# Altium integrated library Oscillators - Crystals.IntLib: 746 symbols (part 1 of 17)
Pins are listed as number, name and electrical type; pins without a type are passive.

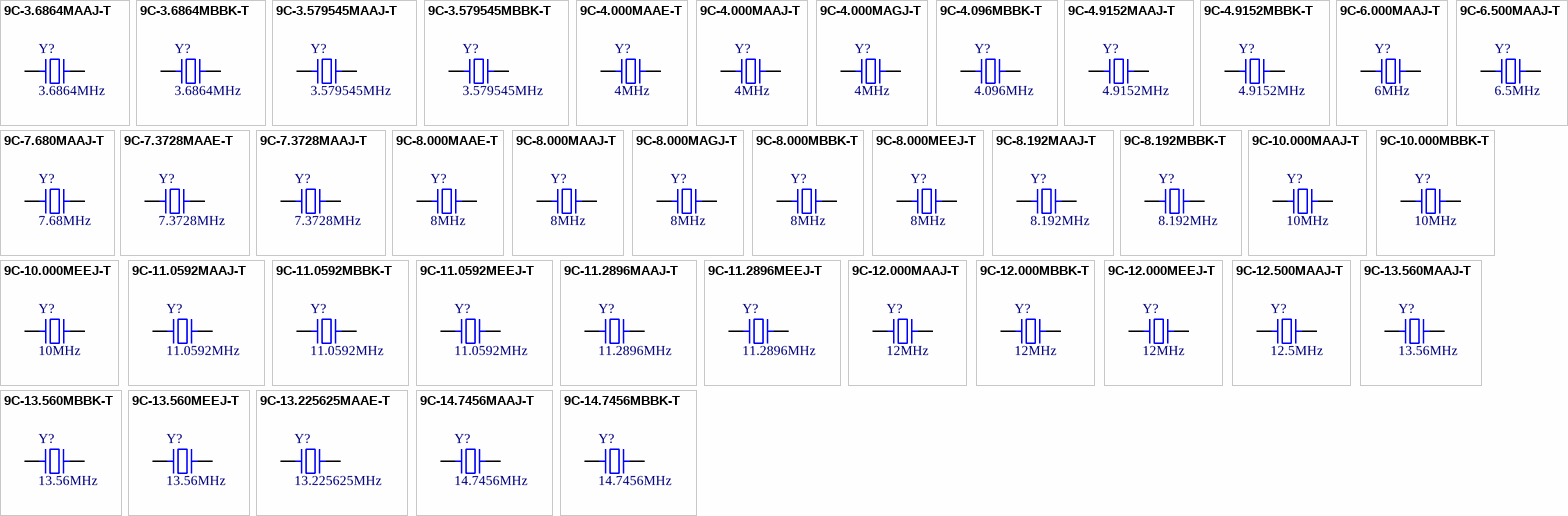
[diagram p0: symbols 9C-3.6864MAAJ-T to 9C-14.7456MBBK-T]

## 9C-3.6864MAAJ-T
designator Y?, comment 3.6864MHz
CRYSTAL 3.6864MHZ 18PF SMD; Part Number: 9C-3.6864MAAJ-T; Manufacturer: TXC CORPORATION; ESR (Equivalent Series Resistance): 150 Ohms; Frequency Stability: ±30ppm; Operating Mode: Fundamental; ComponentLink1Description: Datasheet; ComponentLink1URL: http://www.txccorp.com/download/products/quartz_crystals/2015TXC_9C_32.pdf; ComponentLink2Description: DigiKey Link; ComponentLink2URL: http://digikey.com/product-detail/en/txc-corporation/9C-3.6864MAAJ-T/887-1041-1-ND/2118918; Frequency: 3.6864MHz; Frequency Tolerance: ±30ppm; Height - Seated (Max): 0.161" (4.10mm); LastUpdated: 9/2/2020 1:22:01 AM; Lifecycle Status: Active; Load Capacitance: 18pF; Minimum Order: 1; Mounting Type: Surface Mount; Operating Temperature: -20°C ~ 70°C; Package / Case: HC-49/US; Packaging: TapeAndReel; PartId: 709; Part Status: Active; Price: 0.22; Series: 9C; Size / Dimension: 0.449" L x 0.189" W (11.40mm x 4.80mm); Supplier 1: DigiKey; Supplier Part Number 1: 887-1041-1-ND; Type: MHz Crystal; Value: 3.6864MHz
footprint TXC 9C
pins: 1, 2

## 9C-3.6864MBBK-T
designator Y?, comment 3.6864MHz
CRYSTAL 3.6864MHZ 20PF SMD; Part Number: 9C-3.6864MBBK-T; Manufacturer: TXC CORPORATION; ESR (Equivalent Series Resistance): 150 Ohms; Frequency Stability: ±50ppm; Operating Mode: Fundamental; ComponentLink1Description: Datasheet; ComponentLink1URL: http://www.txccorp.com/download/products/quartz_crystals/2015TXC_9C_32.pdf; ComponentLink2Description: DigiKey Link; ComponentLink2URL: http://digikey.com/product-detail/en/txc-corporation/9C-3.6864MBBK-T/887-2451-1-ND/4475441; Frequency: 3.6864MHz; Frequency Tolerance: ±50ppm; Height - Seated (Max): 0.161" (4.10mm); LastUpdated: 9/2/2020 1:22:02 AM; Lifecycle Status: Active; Load Capacitance: 20pF; Minimum Order: 1; Mounting Type: Surface Mount; Operating Temperature: -20°C ~ 70°C; Package / Case: HC-49S; Packaging: TapeAndReel; PartId: 682; Part Status: Active; Price: 0.18; Series: 9C; Size / Dimension: 0.449" L x 0.189" W (11.40mm x 4.80mm); Supplier 1: DigiKey; Supplier Part Number 1: 887-2451-1-ND; Type: MHz Crystal; Value: 3.6864MHz
footprint TXC 9C
pins: 1, 2

## 9C-3.579545MAAJ-T
designator Y?, comment 3.579545MHz
CRYSTAL 3.579545MHZ 18PF SMD; Part Number: 9C-3.579545MAAJ-T; Manufacturer: TXC CORPORATION; ESR (Equivalent Series Resistance): 200 Ohms; Frequency Stability: ±30ppm; Operating Mode: Fundamental; ComponentLink1Description: Datasheet; ComponentLink1URL: http://www.txccorp.com/download/products/quartz_crystals/2015TXC_9C_32.pdf; ComponentLink2Description: DigiKey Link; ComponentLink2URL: http://digikey.com/product-detail/en/txc-corporation/9C-3.579545MAAJ-T/887-1040-1-ND/2118917; Frequency: 3.579545MHz; Frequency Tolerance: ±30ppm; Height - Seated (Max): 0.161" (4.10mm); LastUpdated: 9/2/2020 1:22:01 AM; Lifecycle Status: Active; Load Capacitance: 18pF; Minimum Order: 1; Mounting Type: Surface Mount; Operating Temperature: -20°C ~ 70°C; Package / Case: HC-49/US; Packaging: TapeAndReel; PartId: 711; Part Status: Active; Price: 0.22; Series: 9C; Size / Dimension: 0.449" L x 0.189" W (11.40mm x 4.80mm); Supplier 1: DigiKey; Supplier Part Number 1: 887-1040-1-ND; Type: MHz Crystal; Value: 3.579545MHz
footprint TXC 9C
pins: 1, 2

## 9C-3.579545MBBK-T
designator Y?, comment 3.579545MHz
CRYSTAL 3.579545MHZ 20PF SMD; Part Number: 9C-3.579545MBBK-T; Manufacturer: TXC CORPORATION; ESR (Equivalent Series Resistance): 200 Ohms; Frequency Stability: ±50ppm; Operating Mode: Fundamental; ComponentLink1Description: Datasheet; ComponentLink1URL: http://www.txccorp.com/download/products/quartz_crystals/2015TXC_9C_32.pdf; ComponentLink2Description: DigiKey Link; ComponentLink2URL: http://digikey.com/product-detail/en/txc-corporation/9C-3.579545MBBK-T/887-2450-1-ND/4475440; Frequency: 3.579545MHz; Frequency Tolerance: ±50ppm; Height - Seated (Max): 0.161" (4.10mm); LastUpdated: 9/2/2020 1:22:02 AM; Lifecycle Status: Active; Load Capacitance: 20pF; Minimum Order: 1; Mounting Type: Surface Mount; Operating Temperature: -20°C ~ 70°C; Package / Case: HC-49S; Packaging: TapeAndReel; PartId: 665; Part Status: Active; Price: 0.18; Series: 9C; Size / Dimension: 0.449" L x 0.189" W (11.40mm x 4.80mm); Supplier 1: DigiKey; Supplier Part Number 1: 887-2450-1-ND; Type: MHz Crystal; Value: 3.579545MHz
footprint TXC 9C
pins: 1, 2

## 9C-4.000MAAE-T
designator Y?, comment 4MHz
CRYSTAL 4.0000MHZ 12PF SMD; Part Number: 9C-4.000MAAE-T; Manufacturer: TXC CORPORATION; ESR (Equivalent Series Resistance): 150 Ohms; Frequency Stability: ±30ppm; Operating Mode: Fundamental; ComponentLink1Description: Datasheet; ComponentLink1URL: http://www.txccorp.com/download/products/quartz_crystals/2015TXC_9C_32.pdf; ComponentLink2Description: DigiKey Link; ComponentLink2URL: http://digikey.com/product-detail/en/txc-corporation/9C-4.000MAAE-T/887-2462-1-ND/4475447; Frequency: 4MHz; Frequency Tolerance: ±30ppm; Height - Seated (Max): 0.161" (4.10mm); LastUpdated: 9/2/2020 1:22:02 AM; Lifecycle Status: Active; Load Capacitance: 12pF; Minimum Order: 1; Mounting Type: Surface Mount; Operating Temperature: -20°C ~ 70°C; Package / Case: HC-49S; Packaging: TapeAndReel; PartId: 660; Part Status: Active; Price: 0.19; Series: 9C; Size / Dimension: 0.449" L x 0.189" W (11.40mm x 4.80mm); Supplier 1: DigiKey; Supplier Part Number 1: 887-2462-1-ND; Type: MHz Crystal; Value: 4MHz
footprint TXC 9C
pins: 1, 2

## 9C-4.000MAAJ-T
designator Y?, comment 4MHz
CRYSTAL 4.0000MHZ 18PF SMD; Part Number: 9C-4.000MAAJ-T; Manufacturer: TXC CORPORATION; ESR (Equivalent Series Resistance): 150 Ohms; Frequency Stability: ±30ppm; Operating Mode: Fundamental; ComponentLink1Description: Datasheet; ComponentLink1URL: http://www.txccorp.com/download/products/quartz_crystals/2015TXC_9C_32.pdf; ComponentLink2Description: DigiKey Link; ComponentLink2URL: http://digikey.com/product-detail/en/txc-corporation/9C-4.000MAAJ-T/887-1042-1-ND/2118919; Frequency: 4MHz; Frequency Tolerance: ±30ppm; Height - Seated (Max): 0.161" (4.10mm); LastUpdated: 9/2/2020 1:22:01 AM; Lifecycle Status: Active; Load Capacitance: 18pF; Minimum Order: 1; Mounting Type: Surface Mount; Operating Temperature: -20°C ~ 70°C; Package / Case: HC-49/US; Packaging: TapeAndReel; PartId: 706; Part Status: Active; Price: 0.22; Series: 9C; Size / Dimension: 0.449" L x 0.189" W (11.40mm x 4.80mm); Supplier 1: DigiKey; Supplier Part Number 1: 887-1042-1-ND; Type: MHz Crystal; Value: 4MHz
footprint TXC 9C
pins: 1, 2

## 9C-4.000MAGJ-T
designator Y?, comment 4MHz
CRYSTAL 4.0000MHZ 18PF SMD; Part Number: 9C-4.000MAGJ-T; Manufacturer: TXC CORPORATION; ESR (Equivalent Series Resistance): 150 Ohms; Frequency Stability: ±50ppm; Frequency Tolerance: ±30ppm; Operating Mode: Fundamental; ComponentLink1Description: Datasheet; ComponentLink1URL: http://www.txccorp.com/download/products/quartz_crystals/2015TXC_9C_32.pdf; ComponentLink2Description: DigiKey Link; ComponentLink2URL: http://digikey.com/product-detail/en/txc-corporation/9C-4.000MAGJ-T/887-2463-1-ND/4475504; Frequency: 4MHz; Height - Seated (Max): 0.161" (4.10mm); LastUpdated: 9/2/2020 1:22:02 AM; Lifecycle Status: Active; Load Capacitance: 18pF; Minimum Order: 1; Mounting Type: Surface Mount; Operating Temperature: -40°C ~ 85°C; Package / Case: HC-49S; Packaging: TapeAndReel; PartId: 671; Part Status: Active; Price: 0.19; Series: 9C; Size / Dimension: 0.449" L x 0.189" W (11.40mm x 4.80mm); Supplier 1: DigiKey; Supplier Part Number 1: 887-2463-1-ND; Type: MHz Crystal; Value: 4MHz
footprint TXC 9C
pins: 1, 2

## 9C-4.096MBBK-T
designator Y?, comment 4.096MHz
CRYSTAL 4.0960MHZ 20PF SMD; Part Number: 9C-4.096MBBK-T; Manufacturer: TXC CORPORATION; ESR (Equivalent Series Resistance): 150 Ohms; Frequency Stability: ±50ppm; Operating Mode: Fundamental; ComponentLink1Description: Datasheet; ComponentLink1URL: http://www.txccorp.com/download/products/quartz_crystals/2015TXC_9C_32.pdf; ComponentLink2Description: DigiKey Link; ComponentLink2URL: http://digikey.com/product-detail/en/txc-corporation/9C-4.096MBBK-T/887-1828-1-ND/3585944; Frequency: 4.096MHz; Frequency Tolerance: ±50ppm; Height - Seated (Max): 0.161" (4.10mm); LastUpdated: 9/2/2020 1:22:02 AM; Lifecycle Status: Active; Load Capacitance: 20pF; Minimum Order: 1; Mounting Type: Surface Mount; Operating Temperature: -20°C ~ 70°C; Package / Case: HC-49S; Packaging: TapeAndReel; PartId: 667; Part Status: Active; Price: 0.18; Series: 9C; Size / Dimension: 0.449" L x 0.189" W (11.40mm x 4.80mm); Supplier 1: DigiKey; Supplier Part Number 1: 887-1828-1-ND; Type: MHz Crystal; Value: 4.096MHz
footprint TXC 9C
pins: 1, 2

## 9C-4.9152MAAJ-T
designator Y?, comment 4.9152MHz
CRYSTAL 4.9152MHZ 18PF SMD; Part Number: 9C-4.9152MAAJ-T; Manufacturer: TXC CORPORATION; ESR (Equivalent Series Resistance): 150 Ohms; Frequency Stability: ±30ppm; Operating Mode: Fundamental; ComponentLink1Description: Datasheet; ComponentLink1URL: http://www.txccorp.com/download/products/quartz_crystals/2015TXC_9C_32.pdf; ComponentLink2Description: DigiKey Link; ComponentLink2URL: http://digikey.com/product-detail/en/txc-corporation/9C-4.9152MAAJ-T/887-1044-1-ND/2118921; Frequency: 4.9152MHz; Frequency Tolerance: ±30ppm; Height - Seated (Max): 0.161" (4.10mm); LastUpdated: 9/2/2020 1:22:01 AM; Lifecycle Status: Active; Load Capacitance: 18pF; Minimum Order: 1; Mounting Type: Surface Mount; Operating Temperature: -20°C ~ 70°C; Package / Case: HC-49/US; Packaging: TapeAndReel; PartId: 726; Part Status: Active; Price: 0.22; Series: 9C; Size / Dimension: 0.449" L x 0.189" W (11.40mm x 4.80mm); Supplier 1: DigiKey; Supplier Part Number 1: 887-1044-1-ND; Type: MHz Crystal; Value: 4.9152MHz
footprint TXC 9C
pins: 1, 2

## 9C-4.9152MBBK-T
designator Y?, comment 4.9152MHz
CRYSTAL 4.9152MHZ 20PF SMD; Part Number: 9C-4.9152MBBK-T; Manufacturer: TXC CORPORATION; ESR (Equivalent Series Resistance): 150 Ohms; Frequency Stability: ±50ppm; Operating Mode: Fundamental; ComponentLink1Description: Datasheet; ComponentLink1URL: http://www.txccorp.com/download/products/quartz_crystals/2015TXC_9C_32.pdf; ComponentLink2Description: DigiKey Link; ComponentLink2URL: http://digikey.com/product-detail/en/txc-corporation/9C-4.9152MBBK-T/887-1829-1-ND/3585946; Frequency: 4.9152MHz; Frequency Tolerance: ±50ppm; Height - Seated (Max): 0.161" (4.10mm); LastUpdated: 9/2/2020 1:22:02 AM; Lifecycle Status: Active; Load Capacitance: 20pF; Minimum Order: 1; Mounting Type: Surface Mount; Operating Temperature: -20°C ~ 70°C; Package / Case: HC-49S; Packaging: TapeAndReel; PartId: 666; Part Status: Active; Price: 0.18; Series: 9C; Size / Dimension: 0.449" L x 0.189" W (11.40mm x 4.80mm); Supplier 1: DigiKey; Supplier Part Number 1: 887-1829-1-ND; Type: MHz Crystal; Value: 4.9152MHz
footprint TXC 9C
pins: 1, 2

## 9C-6.000MAAJ-T
designator Y?, comment 6MHz
CRYSTAL 6.0000MHZ 18PF SMD; Part Number: 9C-6.000MAAJ-T; Manufacturer: TXC CORPORATION; ESR (Equivalent Series Resistance): 80 Ohms; Frequency Stability: ±30ppm; Operating Mode: Fundamental; ComponentLink1Description: Datasheet; ComponentLink1URL: http://www.txccorp.com/download/products/quartz_crystals/2015TXC_9C_32.pdf; ComponentLink2Description: DigiKey Link; ComponentLink2URL: http://digikey.com/product-detail/en/txc-corporation/9C-6.000MAAJ-T/887-1045-1-ND/2118922; Frequency: 6MHz; Frequency Tolerance: ±30ppm; Height - Seated (Max): 0.161" (4.10mm); LastUpdated: 9/2/2020 1:22:01 AM; Lifecycle Status: Active; Load Capacitance: 18pF; Minimum Order: 1; Mounting Type: Surface Mount; Operating Temperature: -20°C ~ 70°C; Package / Case: HC-49/US; Packaging: TapeAndReel; PartId: 712; Part Status: Active; Price: 0.22; Series: 9C; Size / Dimension: 0.449" L x 0.189" W (11.40mm x 4.80mm); Supplier 1: DigiKey; Supplier Part Number 1: 887-1045-1-ND; Type: MHz Crystal; Value: 6MHz
footprint TXC 9C
pins: 1, 2

## 9C-6.500MAAJ-T
designator Y?, comment 6.5MHz
CRYSTAL 6.5000MHZ 18PF SMD; Part Number: 9C-6.500MAAJ-T; Manufacturer: TXC CORPORATION; ESR (Equivalent Series Resistance): 80 Ohms; Frequency Stability: ±30ppm; Operating Mode: Fundamental; ComponentLink1Description: Datasheet; ComponentLink1URL: http://www.txccorp.com/download/products/quartz_crystals/2015TXC_9C_32.pdf; ComponentLink2Description: DigiKey Link; ComponentLink2URL: http://digikey.com/product-detail/en/txc-corporation/9C-6.500MAAJ-T/887-2470-1-ND/4475508; Frequency: 6.5MHz; Frequency Tolerance: ±30ppm; Height - Seated (Max): 0.161" (4.10mm); LastUpdated: 9/2/2020 1:22:01 AM; Lifecycle Status: Active; Load Capacitance: 18pF; Minimum Order: 1; Mounting Type: Surface Mount; Operating Temperature: -20°C ~ 70°C; Package / Case: HC-49S; Packaging: TapeAndReel; PartId: 689; Part Status: Active; Price: 0.19; Series: 9C; Size / Dimension: 0.449" L x 0.189" W (11.40mm x 4.80mm); Supplier 1: DigiKey; Supplier Part Number 1: 887-2470-1-ND; Type: MHz Crystal; Value: 6.5MHz
footprint TXC 9C
pins: 1, 2

## 9C-7.680MAAJ-T
designator Y?, comment 7.68MHz
CRYSTAL 7.6800MHZ 18PF SMD; Part Number: 9C-7.680MAAJ-T; Manufacturer: TXC CORPORATION; ESR (Equivalent Series Resistance): 80 Ohms; Frequency Stability: ±30ppm; Operating Mode: Fundamental; ComponentLink1Description: Datasheet; ComponentLink1URL: http://www.txccorp.com/download/products/quartz_crystals/2015TXC_9C_32.pdf; ComponentLink2Description: DigiKey Link; ComponentLink2URL: http://digikey.com/product-detail/en/txc-corporation/9C-7.680MAAJ-T/887-1047-1-ND/2118924; Frequency: 7.68MHz; Frequency Tolerance: ±30ppm; Height - Seated (Max): 0.161" (4.10mm); LastUpdated: 9/2/2020 1:22:01 AM; Lifecycle Status: Active; Load Capacitance: 18pF; Minimum Order: 1; Mounting Type: Surface Mount; Operating Temperature: -20°C ~ 70°C; Package / Case: HC-49/US; Packaging: TapeAndReel; PartId: 704; Part Status: Active; Price: 0.22; Series: 9C; Size / Dimension: 0.449" L x 0.189" W (11.40mm x 4.80mm); Supplier 1: DigiKey; Supplier Part Number 1: 887-1047-1-ND; Type: MHz Crystal; Value: 7.68MHz
footprint TXC 9C
pins: 1, 2

## 9C-7.3728MAAE-T
designator Y?, comment 7.3728MHz
CRYSTAL 7.3728MHZ 12PF SMD; Part Number: 9C-7.3728MAAE-T; Manufacturer: TXC CORPORATION; ESR (Equivalent Series Resistance): 80 Ohms; Frequency Stability: ±30ppm; Operating Mode: Fundamental; ComponentLink1Description: Datasheet; ComponentLink1URL: http://www.txccorp.com/download/products/quartz_crystals/2015TXC_9C_32.pdf; ComponentLink2Description: DigiKey Link; ComponentLink2URL: http://digikey.com/product-detail/en/txc-corporation/9C-7.3728MAAE-T/887-2471-1-ND/4475451; Frequency: 7.3728MHz; Frequency Tolerance: ±30ppm; Height - Seated (Max): 0.161" (4.10mm); LastUpdated: 9/2/2020 1:22:01 AM; Lifecycle Status: Active; Load Capacitance: 12pF; Minimum Order: 1; Mounting Type: Surface Mount; Operating Temperature: -20°C ~ 70°C; Package / Case: HC-49S; Packaging: TapeAndReel; PartId: 720; Part Status: Active; Price: 0.19; Series: 9C; Size / Dimension: 0.449" L x 0.189" W (11.40mm x 4.80mm); Supplier 1: DigiKey; Supplier Part Number 1: 887-2471-1-ND; Type: MHz Crystal; Value: 7.3728MHz
footprint TXC 9C
pins: 1, 2

## 9C-7.3728MAAJ-T
designator Y?, comment 7.3728MHz
CRYSTAL 7.3728MHZ 18PF SMD; Part Number: 9C-7.3728MAAJ-T; Manufacturer: TXC CORPORATION; ESR (Equivalent Series Resistance): 80 Ohms; Frequency Stability: ±30ppm; Operating Mode: Fundamental; ComponentLink1Description: Datasheet; ComponentLink1URL: http://www.txccorp.com/download/products/quartz_crystals/2015TXC_9C_32.pdf; ComponentLink2Description: DigiKey Link; ComponentLink2URL: http://digikey.com/product-detail/en/txc-corporation/9C-7.3728MAAJ-T/887-1046-1-ND/2118923; Frequency: 7.3728MHz; Frequency Tolerance: ±30ppm; Height - Seated (Max): 0.161" (4.10mm); LastUpdated: 9/2/2020 1:22:01 AM; Lifecycle Status: Active; Load Capacitance: 18pF; Minimum Order: 1; Mounting Type: Surface Mount; Operating Temperature: -20°C ~ 70°C; Package / Case: HC-49/US; Packaging: TapeAndReel; PartId: 695; Part Status: Active; Price: 0.22; Series: 9C; Size / Dimension: 0.449" L x 0.189" W (11.40mm x 4.80mm); Supplier 1: DigiKey; Supplier Part Number 1: 887-1046-1-ND; Type: MHz Crystal; Value: 7.3728MHz
footprint TXC 9C
pins: 1, 2

## 9C-8.000MAAE-T
designator Y?, comment 8MHz
CRYSTAL 8.0000MHZ 12PF SMD; Part Number: 9C-8.000MAAE-T; Manufacturer: TXC CORPORATION; ESR (Equivalent Series Resistance): 80 Ohms; Frequency Stability: ±30ppm; Operating Mode: Fundamental; ComponentLink1Description: Datasheet; ComponentLink1URL: http://www.txccorp.com/download/products/quartz_crystals/2015TXC_9C_32.pdf; ComponentLink2Description: DigiKey Link; ComponentLink2URL: http://digikey.com/product-detail/en/txc-corporation/9C-8.000MAAE-T/887-2473-1-ND/4475453; Frequency: 8MHz; Frequency Tolerance: ±30ppm; Height - Seated (Max): 0.161" (4.10mm); LastUpdated: 9/2/2020 1:22:01 AM; Lifecycle Status: Active; Load Capacitance: 12pF; Minimum Order: 1; Mounting Type: Surface Mount; Operating Temperature: -20°C ~ 70°C; Package / Case: HC-49S; Packaging: TapeAndReel; PartId: 703; Part Status: Active; Price: 0.19; Series: 9C; Size / Dimension: 0.449" L x 0.189" W (11.40mm x 4.80mm); Supplier 1: DigiKey; Supplier Part Number 1: 887-2473-1-ND; Type: MHz Crystal; Value: 8MHz
footprint TXC 9C
pins: 1, 2

## 9C-8.000MAAJ-T
designator Y?, comment 8MHz
CRYSTAL 8.0000MHZ 18PF SMD; Part Number: 9C-8.000MAAJ-T; Manufacturer: TXC CORPORATION; ESR (Equivalent Series Resistance): 80 Ohms; Frequency Stability: ±30ppm; Operating Mode: Fundamental; ComponentLink1Description: Datasheet; ComponentLink1URL: http://www.txccorp.com/download/products/quartz_crystals/2015TXC_9C_32.pdf; ComponentLink2Description: DigiKey Link; ComponentLink2URL: http://digikey.com/product-detail/en/txc-corporation/9C-8.000MAAJ-T/887-1048-1-ND/2118925; Frequency: 8MHz; Frequency Tolerance: ±30ppm; Height - Seated (Max): 0.161" (4.10mm); LastUpdated: 9/2/2020 1:22:01 AM; Lifecycle Status: Active; Load Capacitance: 18pF; Minimum Order: 1; Mounting Type: Surface Mount; Operating Temperature: -20°C ~ 70°C; Package / Case: HC-49/US; Packaging: TapeAndReel; PartId: 701; Part Status: Active; Price: 0.19; Series: 9C; Size / Dimension: 0.449" L x 0.189" W (11.40mm x 4.80mm); Supplier 1: DigiKey; Supplier Part Number 1: 887-1048-1-ND; Type: MHz Crystal; Value: 8MHz
footprint TXC 9C
pins: 1, 2

## 9C-8.000MAGJ-T
designator Y?, comment 8MHz
CRYSTAL 8.0000MHZ 18PF SMD; Part Number: 9C-8.000MAGJ-T; Manufacturer: TXC CORPORATION; ESR (Equivalent Series Resistance): 80 Ohms; Frequency Stability: ±50ppm; Frequency Tolerance: ±30ppm; Operating Mode: Fundamental; ComponentLink1Description: Datasheet; ComponentLink1URL: http://www.txccorp.com/download/products/quartz_crystals/2015TXC_9C_32.pdf; ComponentLink2Description: DigiKey Link; ComponentLink2URL: http://digikey.com/product-detail/en/txc-corporation/9C-8.000MAGJ-T/887-2474-1-ND/4475509; Frequency: 8MHz; Height - Seated (Max): 0.161" (4.10mm); LastUpdated: 9/2/2020 1:22:02 AM; Lifecycle Status: Active; Load Capacitance: 18pF; Minimum Order: 1; Mounting Type: Surface Mount; Operating Temperature: -40°C ~ 85°C; Package / Case: HC-49S; Packaging: TapeAndReel; PartId: 670; Part Status: Active; Price: 0.19; Series: 9C; Size / Dimension: 0.449" L x 0.189" W (11.40mm x 4.80mm); Supplier 1: DigiKey; Supplier Part Number 1: 887-2474-1-ND; Type: MHz Crystal; Value: 8MHz
footprint TXC 9C
pins: 1, 2

## 9C-8.000MBBK-T
designator Y?, comment 8MHz
CRYSTAL 8.0000MHZ 20PF SMD; Part Number: 9C-8.000MBBK-T; Manufacturer: TXC CORPORATION; ESR (Equivalent Series Resistance): 80 Ohms; Frequency Stability: ±50ppm; Operating Mode: Fundamental; ComponentLink1Description: Datasheet; ComponentLink1URL: http://www.txccorp.com/download/products/quartz_crystals/2015TXC_9C_32.pdf; ComponentLink2Description: DigiKey Link; ComponentLink2URL: http://digikey.com/product-detail/en/txc-corporation/9C-8.000MBBK-T/887-2475-1-ND/4475454; Frequency: 8MHz; Frequency Tolerance: ±50ppm; Height - Seated (Max): 0.161" (4.10mm); LastUpdated: 9/2/2020 1:22:01 AM; Lifecycle Status: Active; Load Capacitance: 20pF; Minimum Order: 1; Mounting Type: Surface Mount; Operating Temperature: -20°C ~ 70°C; Package / Case: HC-49S; Packaging: TapeAndReel; PartId: 697; Part Status: Active; Price: 0.18; Series: 9C; Size / Dimension: 0.449" L x 0.189" W (11.40mm x 4.80mm); Supplier 1: DigiKey; Supplier Part Number 1: 887-2475-1-ND; Type: MHz Crystal; Value: 8MHz
footprint TXC 9C
pins: 1, 2

## 9C-8.000MEEJ-T
designator Y?, comment 8MHz
CRYSTAL 8.0000MHZ 18PF SMD; Part Number: 9C-8.000MEEJ-T; Manufacturer: TXC CORPORATION; ESR (Equivalent Series Resistance): 80 Ohms; Frequency Stability: ±10ppm; Operating Mode: Fundamental; ComponentLink1Description: Datasheet; ComponentLink1URL: http://www.txccrystal.com/images/pdf/9c-accuracy.pdf; ComponentLink2Description: DigiKey Link; ComponentLink2URL: http://digikey.com/product-detail/en/txc-corporation/9C-8.000MEEJ-T/887-1263-1-ND/2207845; Frequency: 8MHz; Frequency Tolerance: ±10ppm; Height - Seated (Max): 0.161" (4.10mm); LastUpdated: 9/2/2020 1:22:01 AM; Lifecycle Status: Active; Load Capacitance: 18pF; Minimum Order: 1; Mounting Type: Surface Mount; Operating Temperature: -20°C ~ 70°C; Package / Case: HC-49/US; Packaging: TapeAndReel; PartId: 694; Part Status: Active; Price: 0.29; Series: 9C; Size / Dimension: 0.449" L x 0.189" W (11.40mm x 4.80mm); Supplier 1: DigiKey; Supplier Part Number 1: 887-1263-1-ND; Type: MHz Crystal; Value: 8MHz
footprint TXC 9C
pins: 1, 2

## 9C-8.192MAAJ-T
designator Y?, comment 8.192MHz
CRYSTAL 8.1920MHZ 18PF SMD; Part Number: 9C-8.192MAAJ-T; Manufacturer: TXC CORPORATION; ESR (Equivalent Series Resistance): 80 Ohms; Frequency Stability: ±30ppm; Operating Mode: Fundamental; ComponentLink1Description: Datasheet; ComponentLink1URL: http://www.txccorp.com/download/products/quartz_crystals/2015TXC_9C_32.pdf; ComponentLink2Description: DigiKey Link; ComponentLink2URL: http://digikey.com/product-detail/en/txc-corporation/9C-8.192MAAJ-T/887-1417-1-ND/2207999; Frequency: 8.192MHz; Frequency Tolerance: ±30ppm; Height - Seated (Max): 0.161" (4.10mm); LastUpdated: 9/2/2020 1:22:01 AM; Lifecycle Status: Active; Load Capacitance: 18pF; Minimum Order: 1; Mounting Type: Surface Mount; Operating Temperature: -20°C ~ 70°C; Package / Case: HC-49/US; Packaging: TapeAndReel; PartId: 725; Part Status: Active; Price: 0.22; Series: 9C; Size / Dimension: 0.449" L x 0.189" W (11.40mm x 4.80mm); Supplier 1: DigiKey; Supplier Part Number 1: 887-1417-1-ND; Type: MHz Crystal; Value: 8.192MHz
footprint TXC 9C
pins: 1, 2

## 9C-8.192MBBK-T
designator Y?, comment 8.192MHz
CRYSTAL 8.1920MHZ 20PF SMD; Part Number: 9C-8.192MBBK-T; Manufacturer: TXC CORPORATION; ESR (Equivalent Series Resistance): 80 Ohms; Frequency Stability: ±50ppm; Operating Mode: Fundamental; ComponentLink1Description: Datasheet; ComponentLink1URL: http://www.txccorp.com/download/products/quartz_crystals/2015TXC_9C_32.pdf; ComponentLink2Description: DigiKey Link; ComponentLink2URL: http://digikey.com/product-detail/en/txc-corporation/9C-8.192MBBK-T/887-2476-1-ND/4475455; Frequency: 8.192MHz; Frequency Tolerance: ±50ppm; Height - Seated (Max): 0.161" (4.10mm); LastUpdated: 9/2/2020 1:22:02 AM; Lifecycle Status: Active; Load Capacitance: 20pF; Minimum Order: 1; Mounting Type: Surface Mount; Operating Temperature: -20°C ~ 70°C; Package / Case: HC-49S; Packaging: TapeAndReel; PartId: 681; Part Status: Active; Price: 0.18; Series: 9C; Size / Dimension: 0.449" L x 0.189" W (11.40mm x 4.80mm); Supplier 1: DigiKey; Supplier Part Number 1: 887-2476-1-ND; Type: MHz Crystal; Value: 8.192MHz
footprint TXC 9C
pins: 1, 2

## 9C-10.000MAAJ-T
designator Y?, comment 10MHz
CRYSTAL 10.0000MHZ 18PF SMD; Part Number: 9C-10.000MAAJ-T; Manufacturer: TXC CORPORATION; ESR (Equivalent Series Resistance): 40 Ohms; Frequency Stability: ±30ppm; Operating Mode: Fundamental; ComponentLink1Description: Datasheet; ComponentLink1URL: http://www.txccorp.com/download/products/quartz_crystals/2015TXC_9C_32.pdf; ComponentLink2Description: DigiKey Link; ComponentLink2URL: http://digikey.com/product-detail/en/txc-corporation/9C-10.000MAAJ-T/887-1050-1-ND/2118927; Frequency: 10MHz; Frequency Tolerance: ±30ppm; Height - Seated (Max): 0.161" (4.10mm); LastUpdated: 9/2/2020 1:22:01 AM; Lifecycle Status: Active; Load Capacitance: 18pF; Minimum Order: 1; Mounting Type: Surface Mount; Operating Temperature: -20°C ~ 70°C; Package / Case: HC-49/US; Packaging: TapeAndReel; PartId: 723; Part Status: Active; Price: 0.22; Series: 9C; Size / Dimension: 0.449" L x 0.189" W (11.40mm x 4.80mm); Supplier 1: DigiKey; Supplier Part Number 1: 887-1050-1-ND; Type: MHz Crystal; Value: 10MHz
footprint TXC 9C
pins: 1, 2

## 9C-10.000MBBK-T
designator Y?, comment 10MHz
CRYSTAL 10.0000MHZ 20PF SMD; Part Number: 9C-10.000MBBK-T; Manufacturer: TXC CORPORATION; ESR (Equivalent Series Resistance): 40 Ohms; Frequency Stability: ±50ppm; Operating Mode: Fundamental; ComponentLink1Description: Datasheet; ComponentLink1URL: http://www.txccorp.com/download/products/quartz_crystals/2015TXC_9C_32.pdf; ComponentLink2Description: DigiKey Link; ComponentLink2URL: http://digikey.com/product-detail/en/txc-corporation/9C-10.000MBBK-T/887-1941-1-ND/3679673; Frequency: 10MHz; Frequency Tolerance: ±50ppm; Height - Seated (Max): 0.161" (4.10mm); LastUpdated: 9/2/2020 1:22:02 AM; Lifecycle Status: Active; Load Capacitance: 20pF; Minimum Order: 1; Mounting Type: Surface Mount; Operating Temperature: -20°C ~ 70°C; Package / Case: HC-49S; Packaging: TapeAndReel; PartId: 679; Part Status: Active; Price: 0.18; Series: 9C; Size / Dimension: 0.449" L x 0.189" W (11.40mm x 4.80mm); Supplier 1: DigiKey; Supplier Part Number 1: 887-1941-1-ND; Type: MHz Crystal; Value: 10MHz
footprint TXC 9C
pins: 1, 2

## 9C-10.000MEEJ-T
designator Y?, comment 10MHz
CRYSTAL 10.0000MHZ 18PF SMD; Part Number: 9C-10.000MEEJ-T; Manufacturer: TXC CORPORATION; ESR (Equivalent Series Resistance): 40 Ohms; Frequency Stability: ±10ppm; Operating Mode: Fundamental; ComponentLink1Description: Datasheet; ComponentLink1URL: http://www.txccrystal.com/images/pdf/9c-accuracy.pdf; ComponentLink2Description: DigiKey Link; ComponentLink2URL: http://digikey.com/product-detail/en/txc-corporation/9C-10.000MEEJ-T/887-1265-1-ND/2207847; Frequency: 10MHz; Frequency Tolerance: ±10ppm; Height - Seated (Max): 0.161" (4.10mm); LastUpdated: 9/2/2020 1:22:01 AM; Lifecycle Status: Active; Load Capacitance: 18pF; Minimum Order: 1; Mounting Type: Surface Mount; Operating Temperature: -20°C ~ 70°C; Package / Case: HC-49/US; Packaging: TapeAndReel; PartId: 718; Part Status: Active; Price: 0.29; Series: 9C; Size / Dimension: 0.449" L x 0.189" W (11.40mm x 4.80mm); Supplier 1: DigiKey; Supplier Part Number 1: 887-1265-1-ND; Type: MHz Crystal; Value: 10MHz
footprint TXC 9C
pins: 1, 2

## 9C-11.0592MAAJ-T
designator Y?, comment 11.0592MHz
CRYSTAL 11.0592MHZ 18PF SMD; Part Number: 9C-11.0592MAAJ-T; Manufacturer: TXC CORPORATION; ESR (Equivalent Series Resistance): 40 Ohms; Frequency Stability: ±30ppm; Operating Mode: Fundamental; ComponentLink1Description: Datasheet; ComponentLink1URL: http://www.txccorp.com/download/products/quartz_crystals/2015TXC_9C_32.pdf; ComponentLink2Description: DigiKey Link; ComponentLink2URL: http://digikey.com/product-detail/en/txc-corporation/9C-11.0592MAAJ-T/887-1051-1-ND/2118928; Frequency: 11.0592MHz; Frequency Tolerance: ±30ppm; Height - Seated (Max): 0.161" (4.10mm); LastUpdated: 9/2/2020 1:22:01 AM; Lifecycle Status: Active; Load Capacitance: 18pF; Minimum Order: 1; Mounting Type: Surface Mount; Operating Temperature: -20°C ~ 70°C; Package / Case: HC-49/US; Packaging: TapeAndReel; PartId: 733; Part Status: Active; Price: 0.22; Series: 9C; Size / Dimension: 0.449" L x 0.189" W (11.40mm x 4.80mm); Supplier 1: DigiKey; Supplier Part Number 1: 887-1051-1-ND; Type: MHz Crystal; Value: 11.0592MHz
footprint TXC 9C
pins: 1, 2

## 9C-11.0592MBBK-T
designator Y?, comment 11.0592MHz
CRYSTAL 11.0592MHZ 20PF SMD; Part Number: 9C-11.0592MBBK-T; Manufacturer: TXC CORPORATION; ESR (Equivalent Series Resistance): 40 Ohms; Frequency Stability: ±50ppm; Operating Mode: Fundamental; ComponentLink1Description: Datasheet; ComponentLink1URL: http://www.txccorp.com/download/products/quartz_crystals/2015TXC_9C_32.pdf; ComponentLink2Description: DigiKey Link; ComponentLink2URL: http://digikey.com/product-detail/en/txc-corporation/9C-11.0592MBBK-T/887-1942-1-ND/3679674; Frequency: 11.0592MHz; Frequency Tolerance: ±50ppm; Height - Seated (Max): 0.161" (4.10mm); LastUpdated: 9/2/2020 1:22:02 AM; Lifecycle Status: Active; Load Capacitance: 20pF; Minimum Order: 1; Mounting Type: Surface Mount; Operating Temperature: -20°C ~ 70°C; Package / Case: HC-49S; Packaging: TapeAndReel; PartId: 685; Part Status: Active; Price: 0.18; Series: 9C; Size / Dimension: 0.449" L x 0.189" W (11.40mm x 4.80mm); Supplier 1: DigiKey; Supplier Part Number 1: 887-1942-1-ND; Type: MHz Crystal; Value: 11.0592MHz
footprint TXC 9C
pins: 1, 2

## 9C-11.0592MEEJ-T
designator Y?, comment 11.0592MHz
CRYSTAL 11.0592MHZ 18PF SMD; Part Number: 9C-11.0592MEEJ-T; Manufacturer: TXC CORPORATION; ESR (Equivalent Series Resistance): 40 Ohms; Frequency Stability: ±10ppm; Operating Mode: Fundamental; ComponentLink1Description: Datasheet; ComponentLink1URL: http://www.txccrystal.com/images/pdf/9c-accuracy.pdf; ComponentLink2Description: DigiKey Link; ComponentLink2URL: http://digikey.com/product-detail/en/txc-corporation/9C-11.0592MEEJ-T/887-1266-1-ND/2207848; Frequency: 11.0592MHz; Frequency Tolerance: ±10ppm; Height - Seated (Max): 0.161" (4.10mm); LastUpdated: 9/2/2020 1:22:01 AM; Lifecycle Status: Active; Load Capacitance: 18pF; Minimum Order: 1; Mounting Type: Surface Mount; Operating Temperature: -20°C ~ 70°C; Package / Case: HC-49/US; Packaging: TapeAndReel; PartId: 742; Part Status: Active; Price: 0.29; Series: 9C; Size / Dimension: 0.449" L x 0.189" W (11.40mm x 4.80mm); Supplier 1: DigiKey; Supplier Part Number 1: 887-1266-1-ND; Type: MHz Crystal; Value: 11.0592MHz
footprint TXC 9C
pins: 1, 2

## 9C-11.2896MAAJ-T
designator Y?, comment 11.2896MHz
CRYSTAL 11.2896MHZ 18PF SMD; Part Number: 9C-11.2896MAAJ-T; Manufacturer: TXC CORPORATION; ESR (Equivalent Series Resistance): 40 Ohms; Frequency Stability: ±30ppm; Operating Mode: Fundamental; ComponentLink1Description: Datasheet; ComponentLink1URL: http://www.txccorp.com/download/products/quartz_crystals/2015TXC_9C_32.pdf; ComponentLink2Description: DigiKey Link; ComponentLink2URL: http://digikey.com/product-detail/en/txc-corporation/9C-11.2896MAAJ-T/887-1052-1-ND/2118929; Frequency: 11.2896MHz; Frequency Tolerance: ±30ppm; Height - Seated (Max): 0.161" (4.10mm); LastUpdated: 9/2/2020 1:22:01 AM; Lifecycle Status: Active; Load Capacitance: 18pF; Minimum Order: 1; Mounting Type: Surface Mount; Operating Temperature: -20°C ~ 70°C; Package / Case: HC-49/US; Packaging: TapeAndReel; PartId: 730; Part Status: Active; Price: 0.22; Series: 9C; Size / Dimension: 0.449" L x 0.189" W (11.40mm x 4.80mm); Supplier 1: DigiKey; Supplier Part Number 1: 887-1052-1-ND; Type: MHz Crystal; Value: 11.2896MHz
footprint TXC 9C
pins: 1, 2

## 9C-11.2896MEEJ-T
designator Y?, comment 11.2896MHz
CRYSTAL 11.2896MHZ 18PF SMD; Part Number: 9C-11.2896MEEJ-T; Manufacturer: TXC CORPORATION; ESR (Equivalent Series Resistance): 40 Ohms; Frequency Stability: ±10ppm; Operating Mode: Fundamental; ComponentLink1Description: Datasheet; ComponentLink1URL: http://www.txccrystal.com/images/pdf/9c-accuracy.pdf; ComponentLink2Description: DigiKey Link; ComponentLink2URL: http://digikey.com/product-detail/en/txc-corporation/9C-11.2896MEEJ-T/887-1267-1-ND/2207849; Frequency: 11.2896MHz; Frequency Tolerance: ±10ppm; Height - Seated (Max): 0.161" (4.10mm); LastUpdated: 9/2/2020 1:22:01 AM; Lifecycle Status: Active; Load Capacitance: 18pF; Minimum Order: 1; Mounting Type: Surface Mount; Operating Temperature: -20°C ~ 70°C; Package / Case: HC-49/US; Packaging: TapeAndReel; PartId: 739; Part Status: Active; Price: 0.29; Series: 9C; Size / Dimension: 0.449" L x 0.189" W (11.40mm x 4.80mm); Supplier 1: DigiKey; Supplier Part Number 1: 887-1267-1-ND; Type: MHz Crystal; Value: 11.2896MHz
footprint TXC 9C
pins: 1, 2

## 9C-12.000MAAJ-T
designator Y?, comment 12MHz
CRYSTAL 12.0000MHZ 18PF SMD; Part Number: 9C-12.000MAAJ-T; Manufacturer: TXC CORPORATION; ESR (Equivalent Series Resistance): 40 Ohms; Frequency Stability: ±30ppm; Operating Mode: Fundamental; ComponentLink1Description: Datasheet; ComponentLink1URL: http://www.txccorp.com/download/products/quartz_crystals/2015TXC_9C_32.pdf; ComponentLink2Description: DigiKey Link; ComponentLink2URL: http://digikey.com/product-detail/en/txc-corporation/9C-12.000MAAJ-T/887-1053-1-ND/2118930; Frequency: 12MHz; Frequency Tolerance: ±30ppm; Height - Seated (Max): 0.161" (4.10mm); LastUpdated: 9/2/2020 1:22:01 AM; Lifecycle Status: Active; Load Capacitance: 18pF; Minimum Order: 1; Mounting Type: Surface Mount; Operating Temperature: -20°C ~ 70°C; Package / Case: HC-49/US; Packaging: TapeAndReel; PartId: 707; Part Status: Active; Price: 0.22; Series: 9C; Size / Dimension: 0.449" L x 0.189" W (11.40mm x 4.80mm); Supplier 1: DigiKey; Supplier Part Number 1: 887-1053-1-ND; Type: MHz Crystal; Value: 12MHz
footprint TXC 9C
pins: 1, 2

## 9C-12.000MBBK-T
designator Y?, comment 12MHz
CRYSTAL 12.0000MHZ 20PF SMD; Part Number: 9C-12.000MBBK-T; Manufacturer: TXC CORPORATION; ESR (Equivalent Series Resistance): 40 Ohms; Frequency Stability: ±50ppm; Operating Mode: Fundamental; ComponentLink1Description: Datasheet; ComponentLink1URL: http://www.txccorp.com/download/products/quartz_crystals/2015TXC_9C_32.pdf; ComponentLink2Description: DigiKey Link; ComponentLink2URL: http://digikey.com/product-detail/en/txc-corporation/9C-12.000MBBK-T/887-2414-1-ND/4475426; Frequency: 12MHz; Frequency Tolerance: ±50ppm; Height - Seated (Max): 0.161" (4.10mm); LastUpdated: 9/2/2020 1:22:02 AM; Lifecycle Status: Active; Load Capacitance: 20pF; Minimum Order: 1; Mounting Type: Surface Mount; Operating Temperature: -20°C ~ 70°C; Package / Case: HC-49S; Packaging: TapeAndReel; PartId: 663; Part Status: Active; Price: 0.18; Series: 9C; Size / Dimension: 0.449" L x 0.189" W (11.40mm x 4.80mm); Supplier 1: DigiKey; Supplier Part Number 1: 887-2414-1-ND; Type: MHz Crystal; Value: 12MHz
footprint TXC 9C
pins: 1, 2

## 9C-12.000MEEJ-T
designator Y?, comment 12MHz
CRYSTAL 12.0000MHZ 18PF SMD; Part Number: 9C-12.000MEEJ-T; Manufacturer: TXC CORPORATION; ESR (Equivalent Series Resistance): 40 Ohms; Frequency Stability: ±10ppm; Operating Mode: Fundamental; ComponentLink1Description: Datasheet; ComponentLink1URL: http://www.txccrystal.com/images/pdf/9c-accuracy.pdf; ComponentLink2Description: DigiKey Link; ComponentLink2URL: http://digikey.com/product-detail/en/txc-corporation/9C-12.000MEEJ-T/887-1268-1-ND/2207850; Frequency: 12MHz; Frequency Tolerance: ±10ppm; Height - Seated (Max): 0.161" (4.10mm); LastUpdated: 9/2/2020 1:22:01 AM; Lifecycle Status: Active; Load Capacitance: 18pF; Minimum Order: 1; Mounting Type: Surface Mount; Operating Temperature: -20°C ~ 70°C; Package / Case: HC-49/US; Packaging: TapeAndReel; PartId: 719; Part Status: Active; Price: 0.29; Series: 9C; Size / Dimension: 0.449" L x 0.189" W (11.40mm x 4.80mm); Supplier 1: DigiKey; Supplier Part Number 1: 887-1268-1-ND; Type: MHz Crystal; Value: 12MHz
footprint TXC 9C
pins: 1, 2

## 9C-12.500MAAJ-T
designator Y?, comment 12.5MHz
CRYSTAL 12.5000MHZ 18PF SMD; Part Number: 9C-12.500MAAJ-T; Manufacturer: TXC CORPORATION; ESR (Equivalent Series Resistance): 40 Ohms; Frequency Stability: ±30ppm; Operating Mode: Fundamental; ComponentLink1Description: Datasheet; ComponentLink1URL: http://www.txccorp.com/download/products/quartz_crystals/2015TXC_9C_32.pdf; ComponentLink2Description: DigiKey Link; ComponentLink2URL: http://digikey.com/product-detail/en/txc-corporation/9C-12.500MAAJ-T/887-2416-1-ND/4475477; Frequency: 12.5MHz; Frequency Tolerance: ±30ppm; Height - Seated (Max): 0.161" (4.10mm); LastUpdated: 9/2/2020 1:22:02 AM; Lifecycle Status: Active; Load Capacitance: 18pF; Minimum Order: 1; Mounting Type: Surface Mount; Operating Temperature: -20°C ~ 70°C; Package / Case: HC-49S; Packaging: TapeAndReel; PartId: 669; Part Status: Active; Price: 0.19; Series: 9C; Size / Dimension: 0.449" L x 0.189" W (11.40mm x 4.80mm); Supplier 1: DigiKey; Supplier Part Number 1: 887-2416-1-ND; Type: MHz Crystal; Value: 12.5MHz
footprint TXC 9C
pins: 1, 2

## 9C-13.560MAAJ-T
designator Y?, comment 13.56MHz
CRYSTAL 13.5600MHZ 18PF SMD; Part Number: 9C-13.560MAAJ-T; Manufacturer: TXC CORPORATION; ESR (Equivalent Series Resistance): 40 Ohms; Frequency Stability: ±30ppm; Operating Mode: Fundamental; ComponentLink1Description: Datasheet; ComponentLink1URL: http://www.txccorp.com/download/products/quartz_crystals/2015TXC_9C_32.pdf; ComponentLink2Description: DigiKey Link; ComponentLink2URL: http://digikey.com/product-detail/en/txc-corporation/9C-13.560MAAJ-T/887-1055-1-ND/2118932; Frequency: 13.56MHz; Frequency Tolerance: ±30ppm; Height - Seated (Max): 0.161" (4.10mm); LastUpdated: 9/2/2020 1:22:01 AM; Lifecycle Status: Active; Load Capacitance: 18pF; Minimum Order: 1; Mounting Type: Surface Mount; Operating Temperature: -20°C ~ 70°C; Package / Case: HC-49/US; Packaging: TapeAndReel; PartId: 722; Part Status: Active; Price: 0.22; Series: 9C; Size / Dimension: 0.449" L x 0.189" W (11.40mm x 4.80mm); Supplier 1: DigiKey; Supplier Part Number 1: 887-1055-1-ND; Type: MHz Crystal; Value: 13.56MHz
footprint TXC 9C
pins: 1, 2

## 9C-13.560MBBK-T
designator Y?, comment 13.56MHz
CRYSTAL 13.5600MHZ 20PF SMD; Part Number: 9C-13.560MBBK-T; Manufacturer: TXC CORPORATION; ESR (Equivalent Series Resistance): 40 Ohms; Frequency Stability: ±50ppm; Operating Mode: Fundamental; ComponentLink1Description: Datasheet; ComponentLink1URL: http://www.txccorp.com/download/products/quartz_crystals/2015TXC_9C_32.pdf; ComponentLink2Description: DigiKey Link; ComponentLink2URL: http://digikey.com/product-detail/en/txc-corporation/9C-13.560MBBK-T/887-2420-1-ND/4475428; Frequency: 13.56MHz; Frequency Tolerance: ±50ppm; Height - Seated (Max): 0.161" (4.10mm); LastUpdated: 9/2/2020 1:22:02 AM; Lifecycle Status: Active; Load Capacitance: 20pF; Minimum Order: 1; Mounting Type: Surface Mount; Operating Temperature: -20°C ~ 70°C; Package / Case: HC-49S; Packaging: TapeAndReel; PartId: 684; Part Status: Active; Price: 0.18; Series: 9C; Size / Dimension: 0.449" L x 0.189" W (11.40mm x 4.80mm); Supplier 1: DigiKey; Supplier Part Number 1: 887-2420-1-ND; Type: MHz Crystal; Value: 13.56MHz
footprint TXC 9C
pins: 1, 2

## 9C-13.560MEEJ-T
designator Y?, comment 13.56MHz
CRYSTAL 13.5600MHZ 18PF SMD; Part Number: 9C-13.560MEEJ-T; Manufacturer: TXC CORPORATION; ESR (Equivalent Series Resistance): 40 Ohms; Frequency Stability: ±10ppm; Operating Mode: Fundamental; ComponentLink1Description: Datasheet; ComponentLink1URL: http://www.txccrystal.com/images/pdf/9c-accuracy.pdf; ComponentLink2Description: DigiKey Link; ComponentLink2URL: http://digikey.com/product-detail/en/txc-corporation/9C-13.560MEEJ-T/887-1270-1-ND/2207852; Frequency: 13.56MHz; Frequency Tolerance: ±10ppm; Height - Seated (Max): 0.161" (4.10mm); LastUpdated: 9/2/2020 1:22:01 AM; Lifecycle Status: Active; Load Capacitance: 18pF; Minimum Order: 1; Mounting Type: Surface Mount; Operating Temperature: -20°C ~ 70°C; Package / Case: HC-49/US; Packaging: TapeAndReel; PartId: 713; Part Status: Active; Price: 0.29; Series: 9C; Size / Dimension: 0.449" L x 0.189" W (11.40mm x 4.80mm); Supplier 1: DigiKey; Supplier Part Number 1: 887-1270-1-ND; Type: MHz Crystal; Value: 13.56MHz
footprint TXC 9C
pins: 1, 2

## 9C-13.225625MAAE-T
designator Y?, comment 13.225625MHz
CRYSTAL 13.225625MHZ 12PF SMD; Part Number: 9C-13.225625MAAE-T; Manufacturer: TXC CORPORATION; ESR (Equivalent Series Resistance): 40 Ohms; Frequency Stability: ±30ppm; Operating Mode: Fundamental; ComponentLink1Description: Datasheet; ComponentLink1URL: http://www.txccorp.com/download/products/quartz_crystals/2015TXC_9C_32.pdf; ComponentLink2Description: DigiKey Link; ComponentLink2URL: http://digikey.com/product-detail/en/txc-corporation/9C-13.225625MAAE-T/887-2418-1-ND/4475479; Frequency: 13.225625MHz; Frequency Tolerance: ±30ppm; Height - Seated (Max): 0.161" (4.10mm); LastUpdated: 9/2/2020 1:22:02 AM; Lifecycle Status: Active; Load Capacitance: 12pF; Minimum Order: 1; Mounting Type: Surface Mount; Operating Temperature: -20°C ~ 70°C; Package / Case: HC-49S; Packaging: TapeAndReel; PartId: 672; Part Status: Active; Price: 0.19; Series: 9C; Size / Dimension: 0.449" L x 0.189" W (11.40mm x 4.80mm); Supplier 1: DigiKey; Supplier Part Number 1: 887-2418-1-ND; Type: MHz Crystal; Value: 13.225625MHz
footprint TXC 9C
pins: 1, 2

## 9C-14.7456MAAJ-T
designator Y?, comment 14.7456MHz
CRYSTAL 14.7456MHZ 18PF SMD; Part Number: 9C-14.7456MAAJ-T; Manufacturer: TXC CORPORATION; ESR (Equivalent Series Resistance): 30 Ohms; Frequency Stability: ±30ppm; Operating Mode: Fundamental; ComponentLink1Description: Datasheet; ComponentLink1URL: http://www.txccorp.com/download/products/quartz_crystals/2015TXC_9C_32.pdf; ComponentLink2Description: DigiKey Link; ComponentLink2URL: http://digikey.com/product-detail/en/txc-corporation/9C-14.7456MAAJ-T/887-1057-1-ND/2118934; Frequency: 14.7456MHz; Frequency Tolerance: ±30ppm; Height - Seated (Max): 0.161" (4.10mm); LastUpdated: 9/2/2020 1:22:01 AM; Lifecycle Status: Active; Load Capacitance: 18pF; Minimum Order: 1; Mounting Type: Surface Mount; Operating Temperature: -20°C ~ 70°C; Package / Case: HC-49/US; Packaging: TapeAndReel; PartId: 731; Part Status: Active; Price: 0.22; Series: 9C; Size / Dimension: 0.449" L x 0.189" W (11.40mm x 4.80mm); Supplier 1: DigiKey; Supplier Part Number 1: 887-1057-1-ND; Type: MHz Crystal; Value: 14.7456MHz
footprint TXC 9C
pins: 1, 2

## 9C-14.7456MBBK-T
designator Y?, comment 14.7456MHz
CRYSTAL 14.7456MHZ 20PF SMD; Part Number: 9C-14.7456MBBK-T; Manufacturer: TXC CORPORATION; ESR (Equivalent Series Resistance): 30 Ohms; Frequency Stability: ±50ppm; Operating Mode: Fundamental; ComponentLink1Description: Datasheet; ComponentLink1URL: http://www.txccorp.com/download/products/quartz_crystals/2015TXC_9C_32.pdf; ComponentLink2Description: DigiKey Link; ComponentLink2URL: http://digikey.com/product-detail/en/txc-corporation/9C-14.7456MBBK-T/887-1943-1-ND/3679675; Frequency: 14.7456MHz; Frequency Tolerance: ±50ppm; Height - Seated (Max): 0.161" (4.10mm); LastUpdated: 9/2/2020 1:22:02 AM; Lifecycle Status: Active; Load Capacitance: 20pF; Minimum Order: 1; Mounting Type: Surface Mount; Operating Temperature: -20°C ~ 70°C; Package / Case: HC-49S; Packaging: TapeAndReel; PartId: 680; Part Status: Active; Price: 0.18; Series: 9C; Size / Dimension: 0.449" L x 0.189" W (11.40mm x 4.80mm); Supplier 1: DigiKey; Supplier Part Number 1: 887-1943-1-ND; Type: MHz Crystal; Value: 14.7456MHz
footprint TXC 9C
pins: 1, 2

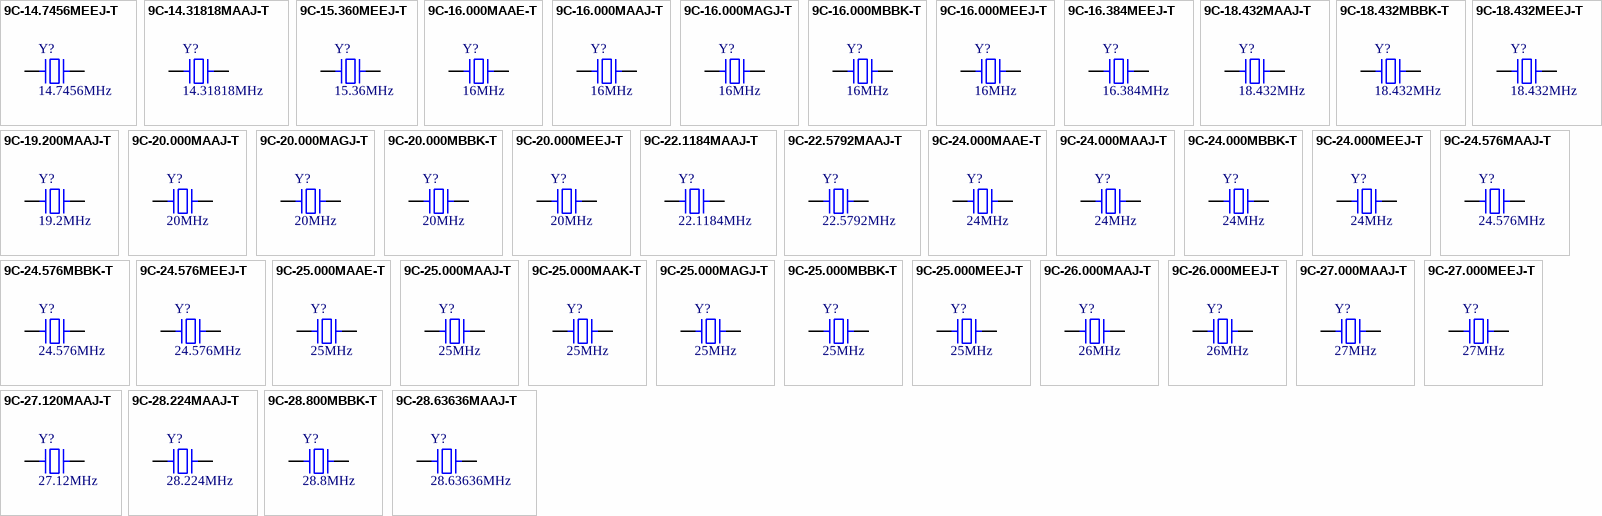
[diagram p1: symbols 9C-14.7456MEEJ-T to 9C-28.63636MAAJ-T]

## 9C-14.7456MEEJ-T
designator Y?, comment 14.7456MHz
CRYSTAL 14.7456MHZ 18PF SMD; Part Number: 9C-14.7456MEEJ-T; Manufacturer: TXC CORPORATION; ESR (Equivalent Series Resistance): 30 Ohms; Frequency Stability: ±10ppm; Operating Mode: Fundamental; ComponentLink1Description: Datasheet; ComponentLink1URL: http://www.txccrystal.com/images/pdf/9c-accuracy.pdf; ComponentLink2Description: DigiKey Link; ComponentLink2URL: http://digikey.com/product-detail/en/txc-corporation/9C-14.7456MEEJ-T/887-1272-1-ND/2207854; Frequency: 14.7456MHz; Frequency Tolerance: ±10ppm; Height - Seated (Max): 0.161" (4.10mm); LastUpdated: 9/2/2020 1:22:01 AM; Lifecycle Status: Active; Load Capacitance: 18pF; Minimum Order: 1; Mounting Type: Surface Mount; Operating Temperature: -20°C ~ 70°C; Package / Case: HC-49/US; Packaging: TapeAndReel; PartId: 737; Part Status: Active; Price: 0.29; Series: 9C; Size / Dimension: 0.449" L x 0.189" W (11.40mm x 4.80mm); Supplier 1: DigiKey; Supplier Part Number 1: 887-1272-1-ND; Type: MHz Crystal; Value: 14.7456MHz
footprint TXC 9C
pins: 1, 2

## 9C-14.31818MAAJ-T
designator Y?, comment 14.31818MHz
CRYSTAL 14.31818MHZ 18PF SMD; Part Number: 9C-14.31818MAAJ-T; Manufacturer: TXC CORPORATION; ESR (Equivalent Series Resistance): 30 Ohms; Frequency Stability: ±30ppm; Operating Mode: Fundamental; ComponentLink1Description: Datasheet; ComponentLink1URL: http://www.txccorp.com/download/products/quartz_crystals/2015TXC_9C_32.pdf; ComponentLink2Description: DigiKey Link; ComponentLink2URL: http://digikey.com/product-detail/en/txc-corporation/9C-14.31818MAAJ-T/887-1056-1-ND/2118933; Frequency: 14.31818MHz; Frequency Tolerance: ±30ppm; Height - Seated (Max): 0.161" (4.10mm); LastUpdated: 9/2/2020 1:22:01 AM; Lifecycle Status: Active; Load Capacitance: 18pF; Minimum Order: 1; Mounting Type: Surface Mount; Operating Temperature: -20°C ~ 70°C; Package / Case: HC-49/US; Packaging: TapeAndReel; PartId: 735; Part Status: Active; Price: 0.22; Series: 9C; Size / Dimension: 0.449" L x 0.189" W (11.40mm x 4.80mm); Supplier 1: DigiKey; Supplier Part Number 1: 887-1056-1-ND; Type: MHz Crystal; Value: 14.31818MHz
footprint TXC 9C
pins: 1, 2

## 9C-15.360MEEJ-T
designator Y?, comment 15.36MHz
CRYSTAL 15.3600MHZ 18PF SMD; Part Number: 9C-15.360MEEJ-T; Manufacturer: TXC CORPORATION; ESR (Equivalent Series Resistance): 30 Ohms; Frequency Stability: ±10ppm; Operating Mode: Fundamental; ComponentLink1Description: Datasheet; ComponentLink1URL: http://www.txccrystal.com/images/pdf/9c-accuracy.pdf; ComponentLink2Description: DigiKey Link; ComponentLink2URL: http://digikey.com/product-detail/en/txc-corporation/9C-15.360MEEJ-T/887-1273-1-ND/2207855; Frequency: 15.36MHz; Frequency Tolerance: ±10ppm; Height - Seated (Max): 0.161" (4.10mm); LastUpdated: 9/2/2020 1:22:01 AM; Lifecycle Status: Active; Load Capacitance: 18pF; Minimum Order: 1; Mounting Type: Surface Mount; Operating Temperature: -20°C ~ 70°C; Package / Case: HC-49/US; Packaging: TapeAndReel; PartId: 743; Part Status: Active; Price: 0.29; Series: 9C; Size / Dimension: 0.449" L x 0.189" W (11.40mm x 4.80mm); Supplier 1: DigiKey; Supplier Part Number 1: 887-1273-1-ND; Type: MHz Crystal; Value: 15.36MHz
footprint TXC 9C
pins: 1, 2

## 9C-16.000MAAE-T
designator Y?, comment 16MHz
CRYSTAL 16.0000MHZ 12PF SMD; Part Number: 9C-16.000MAAE-T; Manufacturer: TXC CORPORATION; ESR (Equivalent Series Resistance): 30 Ohms; Frequency Stability: ±30ppm; Operating Mode: Fundamental; ComponentLink1Description: Datasheet; ComponentLink1URL: http://www.txccorp.com/download/products/quartz_crystals/2015TXC_9C_32.pdf; ComponentLink2Description: DigiKey Link; ComponentLink2URL: http://digikey.com/product-detail/en/txc-corporation/9C-16.000MAAE-T/887-2423-1-ND/4475429; Frequency: 16MHz; Frequency Tolerance: ±30ppm; Height - Seated (Max): 0.161" (4.10mm); LastUpdated: 9/2/2020 1:22:02 AM; Lifecycle Status: Active; Load Capacitance: 12pF; Minimum Order: 1; Mounting Type: Surface Mount; Operating Temperature: -20°C ~ 70°C; Package / Case: HC-49S; Packaging: TapeAndReel; PartId: 675; Part Status: Active; Price: 0.19; Series: 9C; Size / Dimension: 0.449" L x 0.189" W (11.40mm x 4.80mm); Supplier 1: DigiKey; Supplier Part Number 1: 887-2423-1-ND; Type: MHz Crystal; Value: 16MHz
footprint TXC 9C
pins: 1, 2

## 9C-16.000MAAJ-T
designator Y?, comment 16MHz
CRYSTAL 16.0000MHZ 18PF SMD; Part Number: 9C-16.000MAAJ-T; Manufacturer: TXC CORPORATION; ESR (Equivalent Series Resistance): 30 Ohms; Frequency Stability: ±30ppm; Operating Mode: Fundamental; ComponentLink1Description: Datasheet; ComponentLink1URL: http://www.txccorp.com/download/products/quartz_crystals/2015TXC_9C_32.pdf; ComponentLink2Description: DigiKey Link; ComponentLink2URL: http://digikey.com/product-detail/en/txc-corporation/9C-16.000MAAJ-T/887-1059-1-ND/2118936; Frequency: 16MHz; Frequency Tolerance: ±30ppm; Height - Seated (Max): 0.161" (4.10mm); LastUpdated: 9/2/2020 1:22:01 AM; Lifecycle Status: Active; Load Capacitance: 18pF; Minimum Order: 1; Mounting Type: Surface Mount; Operating Temperature: -20°C ~ 70°C; Package / Case: HC-49/US; Packaging: TapeAndReel; PartId: 708; Part Status: Active; Price: 0.22; Series: 9C; Size / Dimension: 0.449" L x 0.189" W (11.40mm x 4.80mm); Supplier 1: DigiKey; Supplier Part Number 1: 887-1059-1-ND; Type: MHz Crystal; Value: 16MHz
footprint TXC 9C
pins: 1, 2

## 9C-16.000MAGJ-T
designator Y?, comment 16MHz
CRYSTAL 16.0000MHZ 18PF SMD; Part Number: 9C-16.000MAGJ-T; Manufacturer: TXC CORPORATION; ESR (Equivalent Series Resistance): 30 Ohms; Frequency Stability: ±50ppm; Frequency Tolerance: ±30ppm; Operating Mode: Fundamental; ComponentLink1Description: Datasheet; ComponentLink1URL: http://www.txccorp.com/download/products/quartz_crystals/2015TXC_9C_32.pdf; ComponentLink2Description: DigiKey Link; ComponentLink2URL: http://digikey.com/product-detail/en/txc-corporation/9C-16.000MAGJ-T/887-2424-1-ND/4475483; Frequency: 16MHz; Height - Seated (Max): 0.161" (4.10mm); LastUpdated: 9/2/2020 1:22:02 AM; Lifecycle Status: Active; Load Capacitance: 18pF; Minimum Order: 1; Mounting Type: Surface Mount; Operating Temperature: -40°C ~ 85°C; Package / Case: HC-49S; Packaging: TapeAndReel; PartId: 677; Part Status: Active; Price: 0.19; Series: 9C; Size / Dimension: 0.449" L x 0.189" W (11.40mm x 4.80mm); Supplier 1: DigiKey; Supplier Part Number 1: 887-2424-1-ND; Type: MHz Crystal; Value: 16MHz
footprint TXC 9C
pins: 1, 2